# Altium footprint library analog-devices.PCBLIB: 79 footprints (part 2 of 6)
Each footprint in its own frame and in the unit in brackets; x right, y up, seen from the top. Pads: shape width x height; smd on the part's side, far side on the other; paste and mask are expansions set on the pad; w line width, h text height; cw(c..) or ccw(c..) is an arc to the next point about the centre after c.
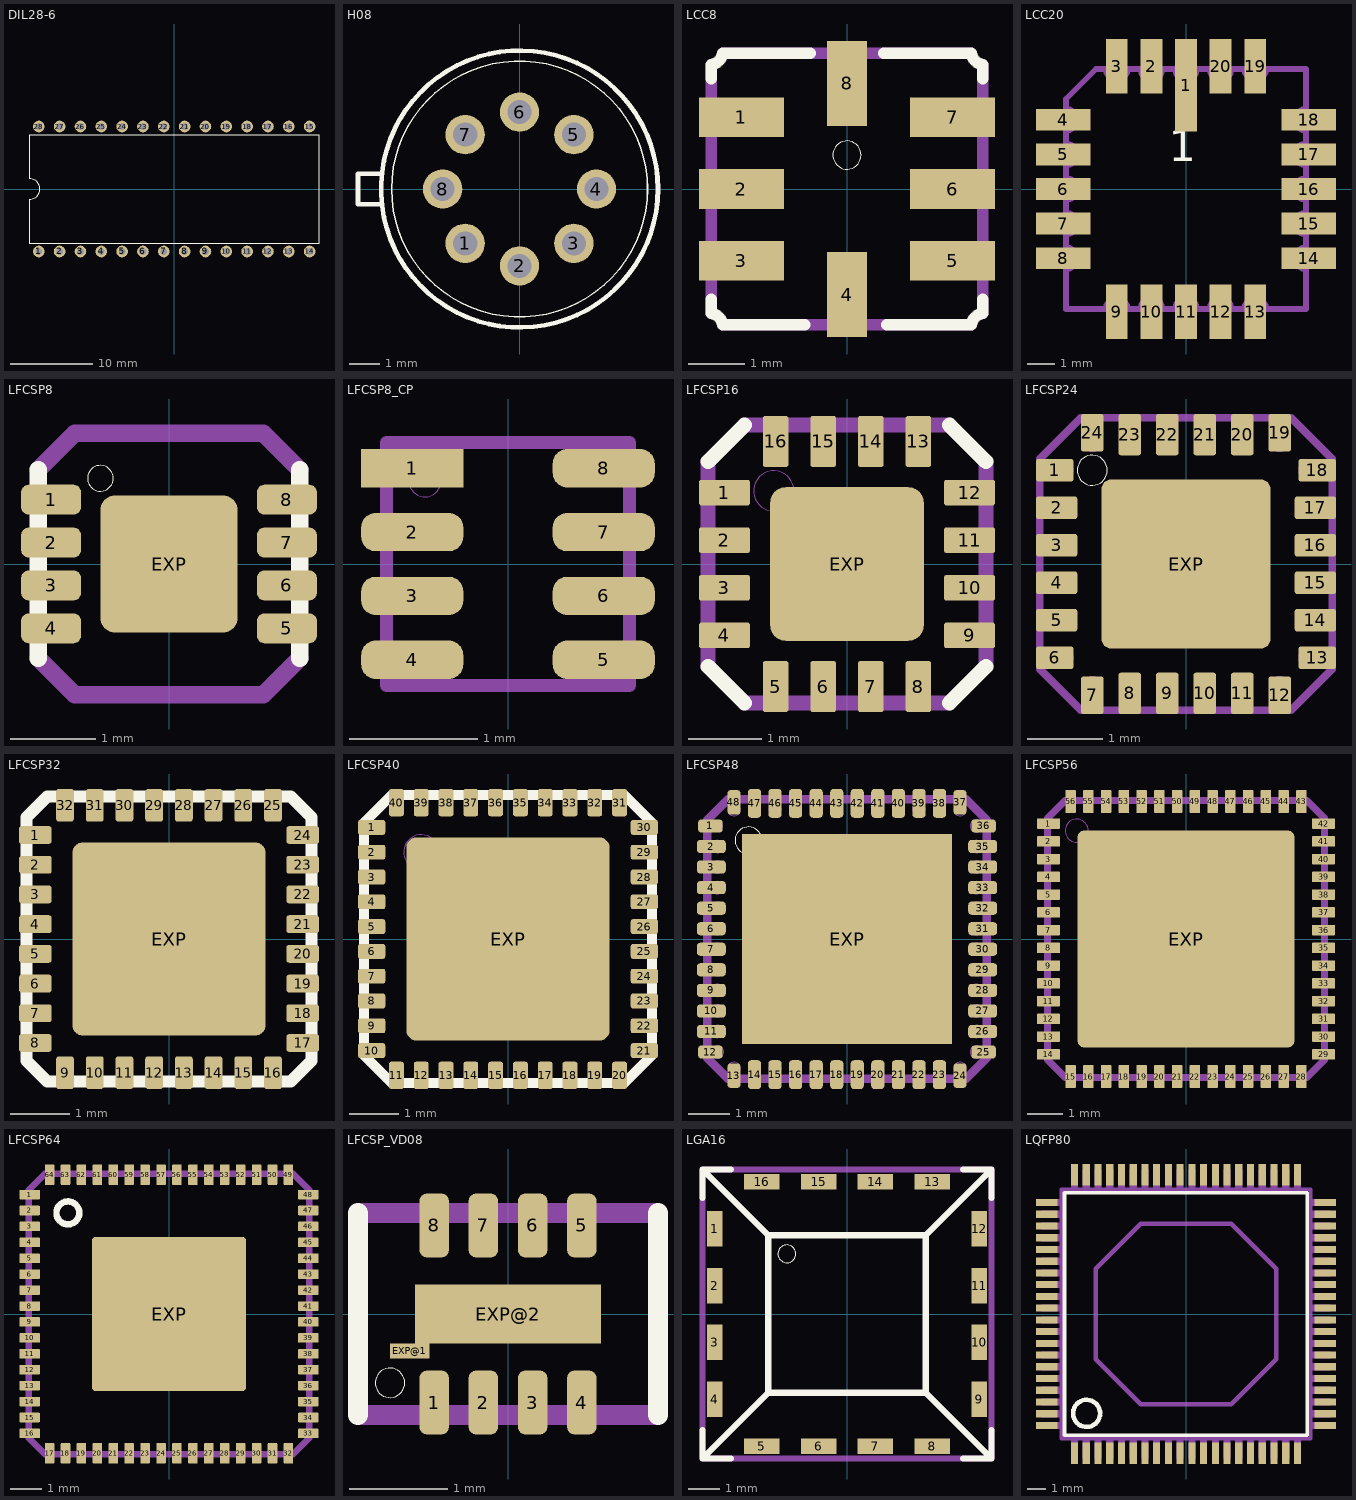
[diagram p1: the footprints below, top view; thin cyan lines are the x and y axes]

## DIL28-6 [mil]
pads (28):
  round 56 hole 32: 1(-650,-300) 2(-550,-300) 3(-450,-300) 4(-350,-300) 5(-250,-300) 6(-150,-300) 7(-50,-300) 8(50,-300) 9(150,-300) 10(250,-300) 11(350,-300) 12(450,-300) 13(550,-300) 14(650,-300) 15(650,300) 16(550,300) 17(450,300) 18(350,300) 19(250,300) 20(150,300) 21(50,300) 22(-50,300) 23(-150,300) 24(-250,300) 25(-350,300) 26(-450,300) 27(-550,300) 28(-650,300)
Top Overlay:
  lines w6: -695,-260 -695,-50 ccw(c-695,0) -695,50 -695,260 695,260 695,-260 -695,-260

## H08 [mil]
pads (8):
  round 51.18 hole 31.5: 1(-70.71,-70.71) 2(0,-100) 3(70.71,-70.71) 4(100,0) 5(70.71,70.71) 6(0,100) 7(-70.71,70.71) 8(-100,0)
Top Overlay:
  circle w6: c0,0 r180
  circle w2: c0,0 r166.35
  lines w6: -180,-20 -210,-20 -210,20 -180,20

## LCC8 [mil]
pads (8):
  rect 59.06x27.56 smd: 1(-73.5,50) 2(-73.5,0) 3(-73.5,-50) 5(73.5,-50) 6(73.5,0) 7(73.5,50)
  rect 27.56x59.06 smd: 4(0,-73.5) 8(0,73.5)
Top Overlay:
  circle w0: c0,23.62 r9.84
  lines w8: -94.49,-76.77 -94.49,-86.61 cw(c-95.47,-95.47) -86.61,-94.49 -29.53,-94.49 ; -94.49,76.77 -94.49,86.61 ccw(c-95.47,95.47) -86.61,94.49 -25.59,94.49 ; 25.59,94.49 86.61,94.49 ccw(c95.47,95.47) 94.49,86.61 94.49,76.77 ; 27.56,-94.49 86.61,-94.49 cw(c95.47,-95.47) 94.49,-86.61 94.49,-76.77
Mechanical 16:
  lines w8: -94.49,-86.61 -94.49,-59.06 ccw(c-94.49,-50.2) -94.49,-41.34 -94.49,-7.87 ccw(c-94.49,0) -94.49,7.87 -94.49,41.34 ccw(c-94.49,50.2) -94.49,59.06 -94.49,86.61 ; -86.61,-94.49 -7.87,-94.49 cw(c0,-94.49) 7.87,-94.49 86.61,-94.49 ; -86.61,94.49 -7.87,94.49 ccw(c0,94.49) 7.87,94.49 86.61,94.49 ; 94.49,-86.61 94.49,-59.06 cw(c94.49,-50.2) 94.49,-41.34 94.49,-7.87 cw(c94.49,0) 94.49,7.87 94.49,41.34 cw(c94.49,50.2) 94.49,59.06 94.49,86.61

## LCC20 [mil]
pads (20):
  rect 31.5x133.86 smd: 1(0,149.61)
  rect 31.5x78.74 smd: 2(-50,177.17) 3(-100,177.17) 9(-100,-177.17) 10(-50,-177.17) 11(0,-177.17) 12(50,-177.17) 13(100,-177.17) 19(100,177.17) 20(50,177.17)
  rect 78.74x31.5 smd: 4(-177.17,100) 5(-177.17,50) 6(-177.17,0) 7(-177.17,-50) 8(-177.17,-100) 14(177.17,-100) 15(177.17,-50) 16(177.17,0) 17(177.17,50) 18(177.17,100)
Top Overlay:
  text "1" at -25,25 h77.5
Mechanical 16:
  lines w8: -173.23,-173.62 -173.23,-173.23 ; -173.23,-115.75 -173.23,-173.23 ; -173.23,-84.25 -173.23,-65.75 ; -173.23,-34.25 -173.23,-15.75 ; -173.23,15.75 -173.23,34.25 ; -173.23,65.75 -173.23,84.25 ; -173.23,115.75 -173.23,129.92 -129.92,173.23 -115.75,173.23 ; -173.17,-115.75 ccw(c-173.17,-100) -173.17,-84.25 ; -173.17,-65.75 ccw(c-173.17,-50) -173.17,-34.25 ; -173.17,-15.75 ccw(c-173.17,0) -173.17,15.75 ; -173.17,34.25 ccw(c-173.17,50) -173.17,65.75 ; -173.17,84.25 ccw(c-173.17,100) -173.17,115.75 ; -115.75,-173.23 -173.23,-173.23 ; -115.75,-173.17 cw(c-100,-173.17) -84.25,-173.17 ; -115.75,173.17 ccw(c-100,173.17) -84.25,173.17 ; -84.25,-173.23 -65.75,-173.23 ; -84.25,173.23 -65.75,173.23 ; -65.75,-173.17 cw(c-50,-173.17) -34.25,-173.17 ; -65.75,173.17 ccw(c-50,173.17) -34.25,173.17 ; -34.25,-173.23 -15.75,-173.23 ; -34.25,173.23 -15.75,173.23 ; -15.75,-173.17 cw(c0,-173.17) 15.75,-173.17 ; -15.75,173.17 ccw(c0,173.17) 15.75,173.17 ; 15.75,-173.23 34.25,-173.23 ; 15.75,173.23 34.25,173.23 ; 34.25,-173.17 cw(c50,-173.17) 65.75,-173.17 ; 34.25,173.17 ccw(c50,173.17) 65.75,173.17 ; 65.75,-173.23 84.25,-173.23 ; 65.75,173.23 84.25,173.23 ; 84.25,-173.17 cw(c100,-173.17) 115.75,-173.17 ; 84.25,173.17 ccw(c100,173.17) 115.75,173.17 ; 115.75,-173.23 173.23,-173.23 173.23,-115.75 ; 115.75,173.23 173.23,173.23 173.23,115.75 ; 173.17,-115.75 cw(c173.17,-100) 173.17,-84.25 ; 173.17,-65.75 cw(c173.17,-50) 173.17,-34.25 ; 173.17,-15.75 cw(c173.17,0) 173.17,15.75 ; 173.17,34.25 cw(c173.17,50) 173.17,65.75 ; 173.17,84.25 cw(c173.17,100) 173.17,115.75 ; 173.23,-84.25 173.23,-65.75 ; 173.23,-34.25 173.23,-15.75 ; 173.23,15.75 173.23,34.25 ; 173.23,65.75 173.23,84.25

## LFCSP8 [mm]
pads (9):
  rrect50% 0.7x0.35 smd: 1(-1.375,0.75) 2(-1.375,0.25) 3(-1.375,-0.25) 4(-1.375,-0.75) 5(1.375,-0.75) 6(1.375,-0.25) 7(1.375,0.25) 8(1.375,0.75)
  rrect20% 1.6x1.6 smd: EXP(0,0)
Top Overlay:
  circle w0: c-0.8,1 r0.15
  lines w0.203: -1.523,-1.1 -1.523,1.1 ; 1.523,-1.1 1.523,1.1
Top Paste:
  rectangle: -0.725,-0.725 0.725,0.725
Top Solder:
  rectangle: -1.75,0.55 -1,0.95
  rectangle: -1.75,0.05 -1,0.45
  rectangle: -1.75,-0.45 -1,-0.05
  rectangle: -1.75,-0.95 -1,-0.55
  region: 1.75,-0.55 1,-0.55 1,-0.95 1.75,-0.95
  region: 1.75,-0.05 1,-0.05 1,-0.45 1.75,-0.45
  region: 1.75,0.45 1,0.45 1,0.05 1.75,0.05
  region: 1.75,0.95 1,0.95 1,0.55 1.75,0.55
  region: -0.533,0.8 -0.502,0.724 -0.425,0.692 -0.349,0.724 -0.317,0.8 -0.325,0.8 0.65,0.812 0.765,0.765 0.812,0.65 0.8,0.65 0.812,-0.65 0.765,-0.765 0.65,-0.812 0.65,-0.8 -0.65,-0.812 -0.765,-0.765 -0.812,-0.65 -0.8,-0.65 -0.812,0.65 -0.765,0.765 -0.65,0.812 -0.65,0.8
Mechanical 16:
  lines w0.203: -1.523,-1.1 -1.1,-1.523 1.1,-1.523 1.523,-1.1 ; -1.523,1.1 -1.1,1.523 1.1,1.523 1.523,1.1

## LFCSP8_CP [mil]
pads (8):
  rect 31.5x11.81 smd: 1(-29.53,29.53)
  rrect75% 31.5x11.81 smd: 2(-29.53,9.84) 3(-29.53,-9.84) 4(-29.53,-29.53) 5(29.53,-29.53) 6(29.53,-9.84) 7(29.53,9.84) 8(29.53,29.53)
Top Paste:
  rectangle: -44.29,24.61 -14.76,34.45
  rectangle: -43.31,4.92 -15.75,14.76
  rectangle: -43.31,-14.76 -15.75,-4.92
  rectangle: -43.31,-34.45 -15.75,-24.61
  region: 43.31,-24.61 15.75,-24.61 15.75,-34.45 43.31,-34.45
  region: 43.31,-4.92 15.75,-4.92 15.75,-14.76 43.31,-14.76
  region: 43.31,14.76 15.75,14.76 15.75,4.92 43.31,4.92
  region: 43.31,34.45 15.75,34.45 15.75,24.61 43.31,24.61
Top Solder:
  rectangle: -46.26,22.64 -12.8,36.42
  rectangle: -46.26,2.95 -12.8,16.73
  rectangle: -46.26,-16.73 -12.8,-2.95
  rectangle: -46.26,-36.42 -12.8,-22.64
  region: 46.26,-22.64 12.8,-22.64 12.8,-36.42 46.26,-36.42
  region: 46.26,-2.95 12.8,-2.95 12.8,-16.73 46.26,-16.73
  region: 46.26,16.73 12.8,16.73 12.8,2.95 46.26,2.95
  region: 46.26,36.42 12.8,36.42 12.8,22.64 46.26,22.64
Mechanical 16:
  circle w0: c-25.59,25.59 r4.92
  lines w4: -37.4,-37.4 37.4,-37.4 37.4,37.4 -37.4,37.4 -37.4,-37.4

## LFCSP16 [mm]
pads (17):
  rrect20% 0.7x0.35 smd: 1(-1.675,0.975) 2(-1.675,0.325) 3(-1.675,-0.325) 4(-1.675,-0.975) 9(1.675,-0.975) 10(1.675,-0.325) 11(1.675,0.325) 12(1.675,0.975)
  rrect20% 0.35x0.7 smd: 5(-0.975,-1.675) 6(-0.325,-1.675) 7(0.325,-1.675) 8(0.975,-1.675) 13(0.975,1.675) 14(0.325,1.675) 15(-0.325,1.675) 16(-0.975,1.675)
  rrect20% 2.1x2.1 smd: EXP(0,0)
Top Overlay:
  lines w0.203: -1.898,-1.4 -1.4,-1.898 ; -1.898,1.4 -1.4,1.898 ; 1.4,-1.898 1.898,-1.4 ; 1.4,1.898 1.898,1.4
Top Paste:
  rectangle: -0.975,-0.975 0.975,0.975
Top Solder:
  rectangle: -2.05,0.775 -1.3,1.175
  rectangle: -2.05,0.125 -1.3,0.525
  rectangle: -2.05,-0.525 -1.3,-0.125
  rectangle: -2.05,-1.175 -1.3,-0.775
  region: -0.775,-2.05 -0.775,-1.3 -1.175,-1.3 -1.175,-2.05
  region: -0.125,-2.05 -0.125,-1.3 -0.525,-1.3 -0.525,-2.05
  region: 0.525,-2.05 0.525,-1.3 0.125,-1.3 0.125,-2.05
  region: 1.175,-2.05 1.175,-1.3 0.775,-1.3 0.775,-2.05
  region: 2.05,-0.775 1.3,-0.775 1.3,-1.175 2.05,-1.175
  region: 2.05,-0.125 1.3,-0.125 1.3,-0.525 2.05,-0.525
  region: 2.05,0.525 1.3,0.525 1.3,0.125 2.05,0.125
  region: 2.05,1.175 1.3,1.175 1.3,0.775 2.05,0.775
  region: 0.775,2.05 0.775,1.3 1.175,1.3 1.175,2.05
  region: 0.125,2.05 0.125,1.3 0.525,1.3 0.525,2.05
  region: -0.525,2.05 -0.525,1.3 -0.125,1.3 -0.125,2.05
  region: -1.175,2.05 -1.175,1.3 -0.775,1.3 -0.775,2.05
  rectangle: -1.05,-1.05 1.05,1.05
Mechanical 16:
  circle w0: c-1,1 r0.275
  lines w0.203: -1.898,-1.4 -1.898,1.4 ; -1.4,-1.898 1.4,-1.898 ; -1.4,1.898 1.4,1.898 ; 1.898,-1.4 1.898,1.4

## LFCSP24 [mm]
pads (25):
  rrect20% 0.5x0.3 smd: 1(-1.75,1.25) 6(-1.75,-1.25) 13(1.75,-1.25) 18(1.75,1.25)
  rrect20% 0.55x0.3 smd: 2(-1.725,0.75) 3(-1.725,0.25) 4(-1.725,-0.25) 5(-1.725,-0.75) 14(1.725,-0.75) 15(1.725,-0.25) 16(1.725,0.25) 17(1.725,0.75)
  rrect20% 0.3x0.5 smd: 7(-1.25,-1.75) 12(1.25,-1.75) 19(1.25,1.75) 24(-1.25,1.75)
  rrect20% 0.3x0.55 smd: 8(-0.75,-1.725) 9(-0.25,-1.725) 10(0.25,-1.725) 11(0.75,-1.725) 20(0.75,1.725) 21(0.25,1.725) 22(-0.25,1.725) 23(-0.75,1.725)
  rrect10% 2.25x2.25 smd: EXP(0,0)
Top Overlay:
  circle w0: c-1.25,1.25 r0.2
Top Paste:
  rectangle: -1.975,1.125 -1.525,1.375
  rectangle: -1.975,0.625 -1.475,0.875
  rectangle: -1.975,0.125 -1.475,0.375
  rectangle: -1.975,-0.375 -1.475,-0.125
  rectangle: -1.975,-0.875 -1.475,-0.625
  rectangle: -1.975,-1.375 -1.525,-1.125
  region: -1.125,-1.975 -1.125,-1.525 -1.375,-1.525 -1.375,-1.975
  region: -0.625,-1.975 -0.625,-1.475 -0.875,-1.475 -0.875,-1.975
  region: -0.125,-1.975 -0.125,-1.475 -0.375,-1.475 -0.375,-1.975
  region: 0.375,-1.975 0.375,-1.475 0.125,-1.475 0.125,-1.975
  region: 0.875,-1.975 0.875,-1.475 0.625,-1.475 0.625,-1.975
  region: 1.375,-1.975 1.375,-1.525 1.125,-1.525 1.125,-1.975
  region: 1.975,-1.125 1.525,-1.125 1.525,-1.375 1.975,-1.375
  region: 1.975,-0.625 1.475,-0.625 1.475,-0.875 1.975,-0.875
  region: 1.975,-0.125 1.475,-0.125 1.475,-0.375 1.975,-0.375
  region: 1.975,0.375 1.475,0.375 1.475,0.125 1.975,0.125
  region: 1.975,0.875 1.475,0.875 1.475,0.625 1.975,0.625
  region: 1.975,1.375 1.525,1.375 1.525,1.125 1.975,1.125
  region: 1.125,1.975 1.125,1.525 1.375,1.525 1.375,1.975
  region: 0.625,1.975 0.625,1.475 0.875,1.475 0.875,1.975
  region: 0.125,1.975 0.125,1.475 0.375,1.475 0.375,1.975
  region: -0.375,1.975 -0.375,1.475 -0.125,1.475 -0.125,1.975
  region: -0.875,1.975 -0.875,1.475 -0.625,1.475 -0.625,1.975
  region: -1.375,1.975 -1.375,1.525 -1.125,1.525 -1.125,1.975
  rectangle: -1.05,-1.05 1.05,1.05
Top Solder:
  rectangle: -2,1.1 -1.5,1.4
  rectangle: -2,0.6 -1.45,0.9
  rectangle: -2,0.1 -1.45,0.4
  rectangle: -2,-0.4 -1.45,-0.1
  rectangle: -2,-0.9 -1.45,-0.6
  rectangle: -2,-1.4 -1.5,-1.1
  region: -1.1,-2 -1.1,-1.5 -1.4,-1.5 -1.4,-2
  region: -0.6,-2 -0.6,-1.45 -0.9,-1.45 -0.9,-2
  region: -0.1,-2 -0.1,-1.45 -0.4,-1.45 -0.4,-2
  region: 0.4,-2 0.4,-1.45 0.1,-1.45 0.1,-2
  region: 0.9,-2 0.9,-1.45 0.6,-1.45 0.6,-2
  region: 1.4,-2 1.4,-1.5 1.1,-1.5 1.1,-2
  region: 2,-1.1 1.5,-1.1 1.5,-1.4 2,-1.4
  region: 2,-0.6 1.45,-0.6 1.45,-0.9 2,-0.9
  region: 2,-0.1 1.45,-0.1 1.45,-0.4 2,-0.4
  region: 2,0.4 1.45,0.4 1.45,0.1 2,0.1
  region: 2,0.9 1.45,0.9 1.45,0.6 2,0.6
  region: 2,1.4 1.5,1.4 1.5,1.1 2,1.1
  region: 1.1,2 1.1,1.5 1.4,1.5 1.4,2
  region: 0.6,2 0.6,1.45 0.9,1.45 0.9,2
  region: 0.1,2 0.1,1.45 0.4,1.45 0.4,2
  region: -0.4,2 -0.4,1.45 -0.1,1.45 -0.1,2
  region: -0.9,2 -0.9,1.45 -0.6,1.45 -0.6,2
  region: -1.4,2 -1.4,1.5 -1.1,1.5 -1.1,2
  region: 0,0 0.254,0 0.254,0.254 0,0.254
Mechanical 16:
  circle w0: c-1.625,1.25 r0.125
  circle w0: c-1.625,0.75 r0.125
  circle w0: c-1.625,0.25 r0.125
  circle w0: c-1.625,-0.25 r0.125
  circle w0: c-1.625,-0.75 r0.125
  circle w0: c-1.625,-1.25 r0.125
  circle w0: c-1.25,-1.625 r0.125
  circle w0: c-0.75,-1.625 r0.125
  circle w0: c-0.25,-1.625 r0.125
  circle w0: c0.25,-1.625 r0.125
  circle w0: c0.75,-1.625 r0.125
  circle w0: c1.25,-1.625 r0.125
  circle w0: c1.625,-1.25 r0.125
  circle w0: c1.625,-0.75 r0.125
  circle w0: c1.625,-0.25 r0.125
  circle w0: c1.625,0.25 r0.125
  circle w0: c1.625,0.75 r0.125
  circle w0: c1.625,1.25 r0.125
  circle w0: c1.25,1.625 r0.125
  circle w0: c0.75,1.625 r0.125
  circle w0: c0.25,1.625 r0.125
  circle w0: c-0.25,1.625 r0.125
  circle w0: c-0.75,1.625 r0.125
  circle w0: c-1.25,1.625 r0.125
  rectangle: -2,1.125 -1.625,1.375
  rectangle: -2,0.625 -1.625,0.875
  rectangle: -2,0.125 -1.625,0.375
  rectangle: -2,-0.375 -1.625,-0.125
  rectangle: -2,-0.875 -1.625,-0.625
  rectangle: -2,-1.375 -1.625,-1.125
  region: -1.125,-2 -1.125,-1.625 -1.375,-1.625 -1.375,-2
  region: -0.625,-2 -0.625,-1.625 -0.875,-1.625 -0.875,-2
  region: -0.125,-2 -0.125,-1.625 -0.375,-1.625 -0.375,-2
  region: 0.375,-2 0.375,-1.625 0.125,-1.625 0.125,-2
  region: 0.875,-2 0.875,-1.625 0.625,-1.625 0.625,-2
  region: 1.375,-2 1.375,-1.625 1.125,-1.625 1.125,-2
  region: 2,-1.125 1.625,-1.125 1.625,-1.375 2,-1.375
  region: 2,-0.625 1.625,-0.625 1.625,-0.875 2,-0.875
  region: 2,-0.125 1.625,-0.125 1.625,-0.375 2,-0.375
  region: 2,0.375 1.625,0.375 1.625,0.125 2,0.125
  region: 2,0.875 1.625,0.875 1.625,0.625 2,0.625
  region: 2,1.375 1.625,1.375 1.625,1.125 2,1.125
  region: 1.125,2 1.125,1.625 1.375,1.625 1.375,2
  region: 0.625,2 0.625,1.625 0.875,1.625 0.875,2
  region: 0.125,2 0.125,1.625 0.375,1.625 0.375,2
  region: -0.375,2 -0.375,1.625 -0.125,1.625 -0.125,2
  region: -0.875,2 -0.875,1.625 -0.625,1.625 -0.625,2
  region: -1.375,2 -1.375,1.625 -1.125,1.625 -1.125,2
  lines w0.102: -1.95,-1.4 -1.4,-1.95 1.4,-1.95 1.95,-1.4 1.95,1.4 1.4,1.95 -1.4,1.95 -1.95,1.4 -1.95,-1.4

## LFCSP32 [mm]
pads (33):
  rrect30% 0.55x0.3 smd: 1(-2.25,1.75) 2(-2.25,1.25) 3(-2.25,0.75) 4(-2.25,0.25) 5(-2.25,-0.25) 6(-2.25,-0.75) 7(-2.25,-1.25) 8(-2.25,-1.75) 17(2.25,-1.75) 18(2.25,-1.25) 19(2.25,-0.75) 20(2.25,-0.25) 21(2.25,0.25) 22(2.25,0.75) 23(2.25,1.25) 24(2.25,1.75)
  rrect30% 0.3x0.55 smd: 9(-1.75,-2.25) 10(-1.25,-2.25) 11(-0.75,-2.25) 12(-0.25,-2.25) 13(0.25,-2.25) 14(0.75,-2.25) 15(1.25,-2.25) 16(1.75,-2.25) 25(1.75,2.25) 26(1.25,2.25) 27(0.75,2.25) 28(0.25,2.25) 29(-0.25,2.25) 30(-0.75,2.25) 31(-1.25,2.25) 32(-1.75,2.25)
  rrect10% 3.25x3.25 smd: EXP(0,0)
Top Overlay:
  lines w0.203: -2.4,-2.05 -2.05,-2.4 2.05,-2.4 2.4,-2.05 2.4,2.05 2.05,2.4 -2.05,2.4 -2.4,2.05 -2.4,-2.05
Top Paste:
  drawing of 161 lines, arcs and shapes, not listed
Top Solder:
  drawing of 161 lines, arcs and shapes, not listed
Mechanical 16:
  circle w0: c-2.21,1.75 r0.115
  circle w0: c-2.21,1.25 r0.115
  circle w0: c-2.21,0.75 r0.115
  circle w0: c-2.21,0.25 r0.115
  circle w0: c-2.21,-0.25 r0.115
  circle w0: c-2.21,-0.75 r0.115
  circle w0: c-2.21,-1.25 r0.115
  circle w0: c-2.21,-1.75 r0.115
  circle w0: c-1.25,1.25 r0.354
  circle w0: c-1.75,-2.21 r0.115
  circle w0: c-1.25,-2.21 r0.115
  circle w0: c-0.75,-2.21 r0.115
  circle w0: c-0.25,-2.21 r0.115
  circle w0: c0.25,-2.21 r0.115
  circle w0: c0.75,-2.21 r0.115
  circle w0: c1.25,-2.21 r0.115
  circle w0: c1.75,-2.21 r0.115
  circle w0: c2.21,-1.75 r0.115
  circle w0: c2.21,-1.25 r0.115
  circle w0: c2.21,-0.75 r0.115
  circle w0: c2.21,-0.25 r0.115
  circle w0: c2.21,0.25 r0.115
  circle w0: c2.21,0.75 r0.115
  circle w0: c2.21,1.25 r0.115
  circle w0: c2.21,1.75 r0.115
  circle w0: c1.75,2.21 r0.115
  circle w0: c1.25,2.21 r0.115
  circle w0: c0.75,2.21 r0.115
  circle w0: c0.25,2.21 r0.115
  circle w0: c-0.25,2.21 r0.115
  circle w0: c-0.75,2.21 r0.115
  circle w0: c-1.25,2.21 r0.115
  circle w0: c-1.75,2.21 r0.115
  rectangle: -2.5,1.635 -2.21,1.865
  rectangle: -2.5,1.135 -2.21,1.365
  rectangle: -2.5,0.635 -2.21,0.865
  rectangle: -2.5,0.135 -2.21,0.365
  rectangle: -2.5,-0.365 -2.21,-0.135
  rectangle: -2.5,-0.865 -2.21,-0.635
  rectangle: -2.5,-1.365 -2.21,-1.135
  rectangle: -2.5,-1.865 -2.21,-1.635
  region: -1.635,-2.5 -1.635,-2.21 -1.865,-2.21 -1.865,-2.5
  region: -1.135,-2.5 -1.135,-2.21 -1.365,-2.21 -1.365,-2.5
  region: -0.635,-2.5 -0.635,-2.21 -0.865,-2.21 -0.865,-2.5
  region: -0.135,-2.5 -0.135,-2.21 -0.365,-2.21 -0.365,-2.5
  region: 0.365,-2.5 0.365,-2.21 0.135,-2.21 0.135,-2.5
  region: 0.865,-2.5 0.865,-2.21 0.635,-2.21 0.635,-2.5
  region: 1.365,-2.5 1.365,-2.21 1.135,-2.21 1.135,-2.5
  region: 1.865,-2.5 1.865,-2.21 1.635,-2.21 1.635,-2.5
  region: 2.5,-1.635 2.21,-1.635 2.21,-1.865 2.5,-1.865
  region: 2.5,-1.135 2.21,-1.135 2.21,-1.365 2.5,-1.365
  region: 2.5,-0.635 2.21,-0.635 2.21,-0.865 2.5,-0.865
  region: 2.5,-0.135 2.21,-0.135 2.21,-0.365 2.5,-0.365
  region: 2.5,0.365 2.21,0.365 2.21,0.135 2.5,0.135
  region: 2.5,0.865 2.21,0.865 2.21,0.635 2.5,0.635
  region: 2.5,1.365 2.21,1.365 2.21,1.135 2.5,1.135
  region: 2.5,1.865 2.21,1.865 2.21,1.635 2.5,1.635
  region: 1.635,2.5 1.635,2.21 1.865,2.21 1.865,2.5
  region: 1.135,2.5 1.135,2.21 1.365,2.21 1.365,2.5
  region: 0.635,2.5 0.635,2.21 0.865,2.21 0.865,2.5
  region: 0.135,2.5 0.135,2.21 0.365,2.21 0.365,2.5
  region: -0.365,2.5 -0.365,2.21 -0.135,2.21 -0.135,2.5
  region: -0.865,2.5 -0.865,2.21 -0.635,2.21 -0.635,2.5
  region: -1.365,2.5 -1.365,2.21 -1.135,2.21 -1.135,2.5
  region: -1.865,2.5 -1.865,2.21 -1.635,2.21 -1.635,2.5

## LFCSP40 [mm]
pads (41):
  rrect30% 0.55x0.3 smd: 1(-2.75,2.25) 2(-2.75,1.75) 3(-2.75,1.25) 4(-2.75,0.75) 5(-2.75,0.25) 6(-2.75,-0.25) 7(-2.75,-0.75) 8(-2.75,-1.25) 9(-2.75,-1.75) 10(-2.75,-2.25) 21(2.75,-2.25) 22(2.75,-1.75) 23(2.75,-1.25) 24(2.75,-0.75) 25(2.75,-0.25) 26(2.75,0.25) 27(2.75,0.75) 28(2.75,1.25) 29(2.75,1.75) 30(2.75,2.25)
  rrect30% 0.3x0.55 smd: 11(-2.25,-2.75) 12(-1.75,-2.75) 13(-1.25,-2.75) 14(-0.75,-2.75) 15(-0.25,-2.75) 16(0.25,-2.75) 17(0.75,-2.75) 18(1.25,-2.75) 19(1.75,-2.75) 20(2.25,-2.75) 31(2.25,2.75) 32(1.75,2.75) 33(1.25,2.75) 34(0.75,2.75) 35(0.25,2.75) 36(-0.25,2.75) 37(-0.75,2.75) 38(-1.25,2.75) 39(-1.75,2.75) 40(-2.25,2.75)
  rrect10% 4.1x4.1 smd: EXP(0,0)
Top Overlay:
  lines w0.203: -2.9,-2.35 -2.35,-2.9 2.35,-2.9 2.9,-2.35 2.9,2.35 2.35,2.9 -2.35,2.9 -2.9,2.35 -2.9,-2.35
Top Paste:
  drawing of 205 lines, arcs and shapes, not listed
Top Solder:
  drawing of 205 lines, arcs and shapes, not listed
Mechanical 16:
  circle w0: c-2.71,2.25 r0.115
  circle w0: c-2.71,1.75 r0.115
  circle w0: c-2.71,1.25 r0.115
  circle w0: c-2.71,0.75 r0.115
  circle w0: c-2.71,0.25 r0.115
  circle w0: c-2.71,-0.25 r0.115
  circle w0: c-2.71,-0.75 r0.115
  circle w0: c-2.71,-1.25 r0.115
  circle w0: c-2.71,-1.75 r0.115
  circle w0: c-2.71,-2.25 r0.115
  circle w0: c-2.25,-2.71 r0.115
  circle w0: c-1.75,-2.71 r0.115
  circle w0: c-1.25,-2.71 r0.115
  circle w0: c-0.75,-2.71 r0.115
  circle w0: c-0.25,-2.71 r0.115
  circle w0: c0.25,-2.71 r0.115
  circle w0: c0.75,-2.71 r0.115
  circle w0: c1.25,-2.71 r0.115
  circle w0: c1.75,-2.71 r0.115
  circle w0: c2.25,-2.71 r0.115
  circle w0: c2.71,-2.25 r0.115
  circle w0: c2.71,-1.75 r0.115
  circle w0: c2.71,-1.25 r0.115
  circle w0: c2.71,-0.75 r0.115
  circle w0: c2.71,-0.25 r0.115
  circle w0: c2.71,0.25 r0.115
  circle w0: c2.71,0.75 r0.115
  circle w0: c2.71,1.25 r0.115
  circle w0: c2.71,1.75 r0.115
  circle w0: c2.71,2.25 r0.115
  circle w0: c2.25,2.71 r0.115
  circle w0: c1.75,2.71 r0.115
  circle w0: c1.25,2.71 r0.115
  circle w0: c0.75,2.71 r0.115
  circle w0: c0.25,2.71 r0.115
  circle w0: c-0.25,2.71 r0.115
  circle w0: c-0.75,2.71 r0.115
  circle w0: c-1.25,2.71 r0.115
  circle w0: c-1.75,2.71 r0.115
  circle w0: c-2.25,2.71 r0.115
  circle w0: c-1.75,1.75 r0.354
  rectangle: -3,2.135 -2.71,2.365
  rectangle: -3,1.635 -2.71,1.865
  rectangle: -3,1.135 -2.71,1.365
  rectangle: -3,0.635 -2.71,0.865
  rectangle: -3,0.135 -2.71,0.365
  rectangle: -3,-0.365 -2.71,-0.135
  rectangle: -3,-0.865 -2.71,-0.635
  rectangle: -3,-1.365 -2.71,-1.135
  rectangle: -3,-1.865 -2.71,-1.635
  rectangle: -3,-2.365 -2.71,-2.135
  region: -2.135,-3 -2.135,-2.71 -2.365,-2.71 -2.365,-3
  region: -1.635,-3 -1.635,-2.71 -1.865,-2.71 -1.865,-3
  region: -1.135,-3 -1.135,-2.71 -1.365,-2.71 -1.365,-3
  region: -0.635,-3 -0.635,-2.71 -0.865,-2.71 -0.865,-3
  region: -0.135,-3 -0.135,-2.71 -0.365,-2.71 -0.365,-3
  region: 0.365,-3 0.365,-2.71 0.135,-2.71 0.135,-3
  region: 0.865,-3 0.865,-2.71 0.635,-2.71 0.635,-3
  region: 1.365,-3 1.365,-2.71 1.135,-2.71 1.135,-3
  region: 1.865,-3 1.865,-2.71 1.635,-2.71 1.635,-3
  region: 2.365,-3 2.365,-2.71 2.135,-2.71 2.135,-3
  region: 3,-2.135 2.71,-2.135 2.71,-2.365 3,-2.365
  region: 3,-1.635 2.71,-1.635 2.71,-1.865 3,-1.865
  region: 3,-1.135 2.71,-1.135 2.71,-1.365 3,-1.365
  region: 3,-0.635 2.71,-0.635 2.71,-0.865 3,-0.865
  region: 3,-0.135 2.71,-0.135 2.71,-0.365 3,-0.365
  region: 3,0.365 2.71,0.365 2.71,0.135 3,0.135
  region: 3,0.865 2.71,0.865 2.71,0.635 3,0.635
  region: 3,1.365 2.71,1.365 2.71,1.135 3,1.135
  region: 3,1.865 2.71,1.865 2.71,1.635 3,1.635
  region: 3,2.365 2.71,2.365 2.71,2.135 3,2.135
  region: 2.135,3 2.135,2.71 2.365,2.71 2.365,3
  region: 1.635,3 1.635,2.71 1.865,2.71 1.865,3
  region: 1.135,3 1.135,2.71 1.365,2.71 1.365,3
  region: 0.635,3 0.635,2.71 0.865,2.71 0.865,3
  region: 0.135,3 0.135,2.71 0.365,2.71 0.365,3
  region: -0.365,3 -0.365,2.71 -0.135,2.71 -0.135,3
  region: -0.865,3 -0.865,2.71 -0.635,2.71 -0.635,3
  region: -1.365,3 -1.365,2.71 -1.135,2.71 -1.135,3
  region: -1.865,3 -1.865,2.71 -1.635,2.71 -1.635,3
  region: -2.365,3 -2.365,2.71 -2.135,2.71 -2.135,3

## LFCSP48 [mm]
pads (49):
  rrect50% 0.6x0.32 smd: 1(-3.325,2.75) 12(-3.325,-2.75) 25(3.325,-2.75) 36(3.325,2.75)
  rrect50% 0.7x0.32 smd: 2(-3.3,2.25) 3(-3.3,1.75) 4(-3.3,1.25) 5(-3.3,0.75) 6(-3.3,0.25) 7(-3.3,-0.25) 8(-3.3,-0.75) 9(-3.3,-1.25) 10(-3.3,-1.75) 11(-3.3,-2.25) 26(3.3,-2.25) 27(3.3,-1.75) 28(3.3,-1.25) 29(3.3,-0.75) 30(3.3,-0.25) 31(3.3,0.25) 32(3.3,0.75) 33(3.3,1.25) 34(3.3,1.75) 35(3.3,2.25)
  rrect50% 0.32x0.6 smd: 13(-2.75,-3.325) 24(2.75,-3.325) 37(2.75,3.325) 48(-2.75,3.325)
  rrect50% 0.32x0.7 smd: 14(-2.25,-3.3) 15(-1.75,-3.3) 16(-1.25,-3.3) 17(-0.75,-3.3) 18(-0.25,-3.3) 19(0.25,-3.3) 20(0.75,-3.3) 21(1.25,-3.3) 22(1.75,-3.3) 23(2.25,-3.3) 38(2.25,3.3) 39(1.75,3.3) 40(1.25,3.3) 41(0.75,3.3) 42(0.25,3.3) 43(-0.25,3.3) 44(-0.75,3.3) 45(-1.25,3.3) 46(-1.75,3.3) 47(-2.25,3.3)
  rect 5.1x5.1 smd: EXP(0,0)
Top Overlay:
  circle w0: c-2.4,2.4 r0.326
Top Paste:
  rectangle: -2.5,-2.5 2.5,2.5
  lines w0.3: -3.5,-2.25 -3.1,-2.25 ; -3.5,-1.75 -3.1,-1.75 ; -3.5,-1.25 -3.1,-1.25 ; -3.5,-0.75 -3.1,-0.75 ; -3.5,-0.25 -3.1,-0.25 ; -3.5,0.25 -3.1,0.25 ; -3.5,0.75 -3.1,0.75 ; -3.5,1.25 -3.1,1.25 ; -3.5,1.75 -3.1,1.75 ; -3.5,2.25 -3.1,2.25 ; -3.475,-2.75 -3.175,-2.75 ; -3.475,2.75 -3.175,2.75 ; -2.75,-3.475 -2.75,-3.175 ; -2.75,3.175 -2.75,3.475 ; -2.25,-3.5 -2.25,-3.1 ; -2.25,3.1 -2.25,3.5 ; -1.75,-3.5 -1.75,-3.1 ; -1.75,3.1 -1.75,3.5 ; -1.25,-3.5 -1.25,-3.1 ; -1.25,3.1 -1.25,3.5 ; -0.75,-3.5 -0.75,-3.1 ; -0.75,3.1 -0.75,3.5 ; -0.25,-3.5 -0.25,-3.1 ; -0.25,3.1 -0.25,3.5 ; 0.25,-3.5 0.25,-3.1 ; 0.25,3.1 0.25,3.5 ; 0.75,-3.5 0.75,-3.1 ; 0.75,3.1 0.75,3.5 ; 1.25,-3.5 1.25,-3.1 ; 1.25,3.1 1.25,3.5 ; 1.75,-3.5 1.75,-3.1 ; 1.75,3.1 1.75,3.5 ; 2.25,-3.5 2.25,-3.1 ; 2.25,3.1 2.25,3.5 ; 2.75,-3.475 2.75,-3.175 ; 2.75,3.175 2.75,3.475 ; 3.1,-2.25 3.5,-2.25 ; 3.1,-1.75 3.5,-1.75 ; 3.1,-1.25 3.5,-1.25 ; 3.1,-0.75 3.5,-0.75 ; 3.1,-0.25 3.5,-0.25 ; 3.1,0.25 3.5,0.25 ; 3.1,0.75 3.5,0.75 ; 3.1,1.25 3.5,1.25 ; 3.1,1.75 3.5,1.75 ; 3.1,2.25 3.5,2.25 ; 3.175,-2.75 3.475,-2.75 ; 3.175,2.75 3.475,2.75
Top Solder:
  rectangle: -2.6,-2.6 2.6,2.6
  lines w0.4: -3.5,-2.25 -3.1,-2.25 ; -3.5,-1.75 -3.1,-1.75 ; -3.5,-1.25 -3.1,-1.25 ; -3.5,-0.75 -3.1,-0.75 ; -3.5,-0.25 -3.1,-0.25 ; -3.5,0.25 -3.1,0.25 ; -3.5,0.75 -3.1,0.75 ; -3.5,1.25 -3.1,1.25 ; -3.5,1.75 -3.1,1.75 ; -3.5,2.25 -3.1,2.25 ; -3.475,-2.75 -3.175,-2.75 ; -3.475,2.75 -3.175,2.75 ; -2.75,-3.475 -2.75,-3.175 ; -2.75,3.175 -2.75,3.475 ; -2.25,-3.5 -2.25,-3.1 ; -2.25,3.1 -2.25,3.5 ; -1.75,-3.5 -1.75,-3.1 ; -1.75,3.1 -1.75,3.5 ; -1.25,-3.5 -1.25,-3.1 ; -1.25,3.1 -1.25,3.5 ; -0.75,-3.5 -0.75,-3.1 ; -0.75,3.1 -0.75,3.5 ; -0.25,-3.5 -0.25,-3.1 ; -0.25,3.1 -0.25,3.5 ; 0.25,-3.5 0.25,-3.1 ; 0.25,3.1 0.25,3.5 ; 0.75,-3.5 0.75,-3.1 ; 0.75,3.1 0.75,3.5 ; 1.25,-3.5 1.25,-3.1 ; 1.25,3.1 1.25,3.5 ; 1.75,-3.5 1.75,-3.1 ; 1.75,3.1 1.75,3.5 ; 2.25,-3.5 2.25,-3.1 ; 2.25,3.1 2.25,3.5 ; 2.75,-3.475 2.75,-3.175 ; 2.75,3.175 2.75,3.475 ; 3.1,-2.25 3.5,-2.25 ; 3.1,-1.75 3.5,-1.75 ; 3.1,-1.25 3.5,-1.25 ; 3.1,-0.75 3.5,-0.75 ; 3.1,-0.25 3.5,-0.25 ; 3.1,0.25 3.5,0.25 ; 3.1,0.75 3.5,0.75 ; 3.1,1.25 3.5,1.25 ; 3.1,1.75 3.5,1.75 ; 3.1,2.25 3.5,2.25 ; 3.175,-2.75 3.475,-2.75 ; 3.175,2.75 3.475,2.75
Mechanical 16:
  circle w0: c-3.15,2.75 r0.125
  circle w0: c-3.15,2.25 r0.15
  circle w0: c-3.15,1.75 r0.15
  circle w0: c-3.15,1.25 r0.15
  circle w0: c-3.15,0.75 r0.15
  circle w0: c-3.15,0.25 r0.15
  circle w0: c-3.15,-0.25 r0.15
  circle w0: c-3.15,-0.75 r0.15
  circle w0: c-3.15,-1.25 r0.15
  circle w0: c-3.15,-1.75 r0.15
  circle w0: c-3.15,-2.25 r0.15
  circle w0: c-3.15,-2.75 r0.15
  circle w0: c-2.75,-3.15 r0.15
  circle w0: c-2.25,-3.15 r0.15
  circle w0: c-1.75,-3.15 r0.15
  circle w0: c-1.25,-3.15 r0.15
  circle w0: c-0.75,-3.15 r0.15
  circle w0: c-0.25,-3.15 r0.15
  circle w0: c0.25,-3.15 r0.15
  circle w0: c0.75,-3.15 r0.15
  circle w0: c1.25,-3.15 r0.15
  circle w0: c1.75,-3.15 r0.15
  circle w0: c2.25,-3.15 r0.15
  circle w0: c2.75,-3.15 r0.15
  circle w0: c3.15,-2.75 r0.15
  circle w0: c3.15,-2.25 r0.15
  circle w0: c3.15,-1.75 r0.15
  circle w0: c3.15,-1.25 r0.15
  circle w0: c3.15,-0.75 r0.15
  circle w0: c3.15,-0.25 r0.15
  circle w0: c3.15,0.25 r0.15
  circle w0: c3.15,0.75 r0.15
  circle w0: c3.15,1.25 r0.15
  circle w0: c3.15,1.75 r0.15
  circle w0: c3.15,2.25 r0.15
  circle w0: c3.15,2.75 r0.15
  circle w0: c2.75,3.15 r0.15
  circle w0: c2.25,3.15 r0.15
  circle w0: c1.75,3.15 r0.15
  circle w0: c1.25,3.15 r0.15
  circle w0: c0.75,3.15 r0.15
  circle w0: c0.25,3.15 r0.15
  circle w0: c-0.25,3.15 r0.15
  circle w0: c-0.75,3.15 r0.15
  circle w0: c-1.25,3.15 r0.15
  circle w0: c-1.75,3.15 r0.15
  circle w0: c-2.25,3.15 r0.15
  circle w0: c-2.75,3.15 r0.15
  rectangle: -3.475,2.6 -3.15,2.9
  rectangle: -3.475,2.1 -3.15,2.4
  rectangle: -3.475,1.6 -3.15,1.9
  rectangle: -3.475,1.1 -3.15,1.4
  rectangle: -3.475,0.6 -3.15,0.9
  rectangle: -3.475,0.1 -3.15,0.4
  rectangle: -3.475,-0.4 -3.15,-0.1
  rectangle: -3.475,-0.9 -3.15,-0.6
  rectangle: -3.475,-1.4 -3.15,-1.1
  rectangle: -3.475,-1.9 -3.15,-1.6
  rectangle: -3.475,-2.4 -3.15,-2.1
  rectangle: -3.475,-2.9 -3.15,-2.6
  region: -2.6,-3.475 -2.6,-3.15 -2.9,-3.15 -2.9,-3.475
  region: -2.1,-3.475 -2.1,-3.15 -2.4,-3.15 -2.4,-3.475
  region: -1.6,-3.475 -1.6,-3.15 -1.9,-3.15 -1.9,-3.475
  region: -1.1,-3.475 -1.1,-3.15 -1.4,-3.15 -1.4,-3.475
  region: -0.6,-3.475 -0.6,-3.15 -0.9,-3.15 -0.9,-3.475
  region: -0.1,-3.475 -0.1,-3.15 -0.4,-3.15 -0.4,-3.475
  region: 0.4,-3.475 0.4,-3.15 0.1,-3.15 0.1,-3.475
  region: 0.9,-3.475 0.9,-3.15 0.6,-3.15 0.6,-3.475
  region: 1.4,-3.475 1.4,-3.15 1.1,-3.15 1.1,-3.475
  region: 1.9,-3.475 1.9,-3.15 1.6,-3.15 1.6,-3.475
  region: 2.4,-3.475 2.4,-3.15 2.1,-3.15 2.1,-3.475
  region: 2.9,-3.475 2.9,-3.15 2.6,-3.15 2.6,-3.475
  region: 3.475,-2.6 3.15,-2.6 3.15,-2.9 3.475,-2.9
  region: 3.475,-2.1 3.15,-2.1 3.15,-2.4 3.475,-2.4
  region: 3.475,-1.6 3.15,-1.6 3.15,-1.9 3.475,-1.9
  region: 3.475,-1.1 3.15,-1.1 3.15,-1.4 3.475,-1.4
  region: 3.475,-0.6 3.15,-0.6 3.15,-0.9 3.475,-0.9
  region: 3.475,-0.1 3.15,-0.1 3.15,-0.4 3.475,-0.4
  region: 3.475,0.4 3.15,0.4 3.15,0.1 3.475,0.1
  region: 3.475,0.9 3.15,0.9 3.15,0.6 3.475,0.6
  region: 3.475,1.4 3.15,1.4 3.15,1.1 3.475,1.1
  region: 3.475,1.9 3.15,1.9 3.15,1.6 3.475,1.6
  region: 3.475,2.4 3.15,2.4 3.15,2.1 3.475,2.1
  region: 3.475,2.9 3.15,2.9 3.15,2.6 3.475,2.6
  region: 2.6,3.475 2.6,3.15 2.9,3.15 2.9,3.475
  region: 2.1,3.475 2.1,3.15 2.4,3.15 2.4,3.475
  region: 1.6,3.475 1.6,3.15 1.9,3.15 1.9,3.475
  region: 1.1,3.475 1.1,3.15 1.4,3.15 1.4,3.475
  region: 0.6,3.475 0.6,3.15 0.9,3.15 0.9,3.475
  region: 0.1,3.475 0.1,3.15 0.4,3.15 0.4,3.475
  region: -0.4,3.475 -0.4,3.15 -0.1,3.15 -0.1,3.475
  region: -0.9,3.475 -0.9,3.15 -0.6,3.15 -0.6,3.475
  region: -1.4,3.475 -1.4,3.15 -1.1,3.15 -1.1,3.475
  region: -1.9,3.475 -1.9,3.15 -1.6,3.15 -1.6,3.475
  region: -2.4,3.475 -2.4,3.15 -2.1,3.15 -2.1,3.475
  region: -2.9,3.475 -2.9,3.15 -2.6,3.15 -2.6,3.475
  lines w0.203: -3.4,-2.9 -2.9,-3.4 2.9,-3.4 3.4,-2.9 3.4,2.9 2.9,3.4 -2.9,3.4 -3.4,2.9 -3.4,-2.9

## LFCSP56 [mm]
pads (57):
  rrect20% 0.65x0.3 smd: 1(-3.875,3.25) 2(-3.875,2.75) 3(-3.875,2.25) 4(-3.875,1.75) 5(-3.875,1.25) 6(-3.875,0.75) 7(-3.875,0.25) 8(-3.875,-0.25) 9(-3.875,-0.75) 10(-3.875,-1.25) 11(-3.875,-1.75) 12(-3.875,-2.25) 13(-3.875,-2.75) 14(-3.875,-3.25) 29(3.875,-3.25) 30(3.875,-2.75) 31(3.875,-2.25) 32(3.875,-1.75) 33(3.875,-1.25) 34(3.875,-0.75) 35(3.875,-0.25) 36(3.875,0.25) 37(3.875,0.75) 38(3.875,1.25) 39(3.875,1.75) 40(3.875,2.25) 41(3.875,2.75) 42(3.875,3.25)
  rrect20% 0.3x0.65 smd: 15(-3.25,-3.875) 16(-2.75,-3.875) 17(-2.25,-3.875) 18(-1.75,-3.875) 19(-1.25,-3.875) 20(-0.75,-3.875) 21(-0.25,-3.875) 22(0.25,-3.875) 23(0.75,-3.875) 24(1.25,-3.875) 25(1.75,-3.875) 26(2.25,-3.875) 27(2.75,-3.875) 28(3.25,-3.875) 43(3.25,3.875) 44(2.75,3.875) 45(2.25,3.875) 46(1.75,3.875) 47(1.25,3.875) 48(0.75,3.875) 49(0.25,3.875) 50(-0.25,3.875) 51(-0.75,3.875) 52(-1.25,3.875) 53(-1.75,3.875) 54(-2.25,3.875) 55(-2.75,3.875) 56(-3.25,3.875)
  rrect5% 6.1x6.1 smd: EXP(0,0)
Top Paste:
  rectangle: -4.175,3.125 -3.575,3.375
  rectangle: -4.175,2.625 -3.575,2.875
  rectangle: -4.175,2.125 -3.575,2.375
  rectangle: -4.175,1.625 -3.575,1.875
  rectangle: -4.175,1.125 -3.575,1.375
  rectangle: -4.175,0.625 -3.575,0.875
  rectangle: -4.175,0.125 -3.575,0.375
  rectangle: -4.175,-0.375 -3.575,-0.125
  rectangle: -4.175,-0.875 -3.575,-0.625
  rectangle: -4.175,-1.375 -3.575,-1.125
  rectangle: -4.175,-1.875 -3.575,-1.625
  rectangle: -4.175,-2.375 -3.575,-2.125
  rectangle: -4.175,-2.875 -3.575,-2.625
  rectangle: -4.175,-3.375 -3.575,-3.125
  region: -3.125,-4.175 -3.125,-3.575 -3.375,-3.575 -3.375,-4.175
  region: -2.625,-4.175 -2.625,-3.575 -2.875,-3.575 -2.875,-4.175
  region: -2.125,-4.175 -2.125,-3.575 -2.375,-3.575 -2.375,-4.175
  region: -1.625,-4.175 -1.625,-3.575 -1.875,-3.575 -1.875,-4.175
  region: -1.125,-4.175 -1.125,-3.575 -1.375,-3.575 -1.375,-4.175
  region: -0.625,-4.175 -0.625,-3.575 -0.875,-3.575 -0.875,-4.175
  region: -0.125,-4.175 -0.125,-3.575 -0.375,-3.575 -0.375,-4.175
  region: 0.375,-4.175 0.375,-3.575 0.125,-3.575 0.125,-4.175
  region: 0.875,-4.175 0.875,-3.575 0.625,-3.575 0.625,-4.175
  region: 1.375,-4.175 1.375,-3.575 1.125,-3.575 1.125,-4.175
  region: 1.875,-4.175 1.875,-3.575 1.625,-3.575 1.625,-4.175
  region: 2.375,-4.175 2.375,-3.575 2.125,-3.575 2.125,-4.175
  region: 2.875,-4.175 2.875,-3.575 2.625,-3.575 2.625,-4.175
  region: 3.375,-4.175 3.375,-3.575 3.125,-3.575 3.125,-4.175
  region: 4.175,-3.125 3.575,-3.125 3.575,-3.375 4.175,-3.375
  region: 4.175,-2.625 3.575,-2.625 3.575,-2.875 4.175,-2.875
  region: 4.175,-2.125 3.575,-2.125 3.575,-2.375 4.175,-2.375
  region: 4.175,-1.625 3.575,-1.625 3.575,-1.875 4.175,-1.875
  region: 4.175,-1.125 3.575,-1.125 3.575,-1.375 4.175,-1.375
  region: 4.175,-0.625 3.575,-0.625 3.575,-0.875 4.175,-0.875
  region: 4.175,-0.125 3.575,-0.125 3.575,-0.375 4.175,-0.375
  region: 4.175,0.375 3.575,0.375 3.575,0.125 4.175,0.125
  region: 4.175,0.875 3.575,0.875 3.575,0.625 4.175,0.625
  region: 4.175,1.375 3.575,1.375 3.575,1.125 4.175,1.125
  region: 4.175,1.875 3.575,1.875 3.575,1.625 4.175,1.625
  region: 4.175,2.375 3.575,2.375 3.575,2.125 4.175,2.125
  region: 4.175,2.875 3.575,2.875 3.575,2.625 4.175,2.625
  region: 4.175,3.375 3.575,3.375 3.575,3.125 4.175,3.125
  region: 3.125,4.175 3.125,3.575 3.375,3.575 3.375,4.175
  region: 2.625,4.175 2.625,3.575 2.875,3.575 2.875,4.175
  region: 2.125,4.175 2.125,3.575 2.375,3.575 2.375,4.175
  region: 1.625,4.175 1.625,3.575 1.875,3.575 1.875,4.175
  region: 1.125,4.175 1.125,3.575 1.375,3.575 1.375,4.175
  region: 0.625,4.175 0.625,3.575 0.875,3.575 0.875,4.175
  region: 0.125,4.175 0.125,3.575 0.375,3.575 0.375,4.175
  region: -0.375,4.175 -0.375,3.575 -0.125,3.575 -0.125,4.175
  region: -0.875,4.175 -0.875,3.575 -0.625,3.575 -0.625,4.175
  region: -1.375,4.175 -1.375,3.575 -1.125,3.575 -1.125,4.175
  region: -1.875,4.175 -1.875,3.575 -1.625,3.575 -1.625,4.175
  region: -2.375,4.175 -2.375,3.575 -2.125,3.575 -2.125,4.175
  region: -2.875,4.175 -2.875,3.575 -2.625,3.575 -2.625,4.175
  region: -3.375,4.175 -3.375,3.575 -3.125,3.575 -3.125,4.175
  rectangle: -2.5,0.5 -0.5,2.5
  rectangle: 0.5,0.5 2.5,2.5
  rectangle: 0.5,-2.5 2.5,-0.5
  rectangle: -2.5,-2.5 -0.5,-0.5
Top Solder:
  rectangle: -4.225,3.075 -3.525,3.425
  rectangle: -3.125,-3.125 3.125,3.125
  rectangle: -4.225,2.575 -3.525,2.925
  rectangle: -4.225,2.075 -3.525,2.425
  rectangle: -4.225,1.575 -3.525,1.925
  rectangle: -4.225,1.075 -3.525,1.425
  rectangle: -4.225,0.575 -3.525,0.925
  rectangle: -4.225,0.075 -3.525,0.425
  rectangle: -4.225,-0.425 -3.525,-0.075
  rectangle: -4.225,-0.925 -3.525,-0.575
  rectangle: -4.225,-1.425 -3.525,-1.075
  rectangle: -4.225,-1.925 -3.525,-1.575
  rectangle: -4.225,-2.425 -3.525,-2.075
  rectangle: -4.225,-2.925 -3.525,-2.575
  rectangle: -4.225,-3.425 -3.525,-3.075
  region: -3.075,-4.225 -3.075,-3.525 -3.425,-3.525 -3.425,-4.225
  region: -2.575,-4.225 -2.575,-3.525 -2.925,-3.525 -2.925,-4.225
  region: -2.075,-4.225 -2.075,-3.525 -2.425,-3.525 -2.425,-4.225
  region: -1.575,-4.225 -1.575,-3.525 -1.925,-3.525 -1.925,-4.225
  region: -1.075,-4.225 -1.075,-3.525 -1.425,-3.525 -1.425,-4.225
  region: -0.575,-4.225 -0.575,-3.525 -0.925,-3.525 -0.925,-4.225
  region: -0.075,-4.225 -0.075,-3.525 -0.425,-3.525 -0.425,-4.225
  region: 0.425,-4.225 0.425,-3.525 0.075,-3.525 0.075,-4.225
  region: 0.925,-4.225 0.925,-3.525 0.575,-3.525 0.575,-4.225
  region: 1.425,-4.225 1.425,-3.525 1.075,-3.525 1.075,-4.225
  region: 1.925,-4.225 1.925,-3.525 1.575,-3.525 1.575,-4.225
  region: 2.425,-4.225 2.425,-3.525 2.075,-3.525 2.075,-4.225
  region: 2.925,-4.225 2.925,-3.525 2.575,-3.525 2.575,-4.225
  region: 3.425,-4.225 3.425,-3.525 3.075,-3.525 3.075,-4.225
  region: 4.225,-3.075 3.525,-3.075 3.525,-3.425 4.225,-3.425
  region: 4.225,-2.575 3.525,-2.575 3.525,-2.925 4.225,-2.925
  region: 4.225,-2.075 3.525,-2.075 3.525,-2.425 4.225,-2.425
  region: 4.225,-1.575 3.525,-1.575 3.525,-1.925 4.225,-1.925
  region: 4.225,-1.075 3.525,-1.075 3.525,-1.425 4.225,-1.425
  region: 4.225,-0.575 3.525,-0.575 3.525,-0.925 4.225,-0.925
  region: 4.225,-0.075 3.525,-0.075 3.525,-0.425 4.225,-0.425
  region: 4.225,0.425 3.525,0.425 3.525,0.075 4.225,0.075
  region: 4.225,0.925 3.525,0.925 3.525,0.575 4.225,0.575
  region: 4.225,1.425 3.525,1.425 3.525,1.075 4.225,1.075
  region: 4.225,1.925 3.525,1.925 3.525,1.575 4.225,1.575
  region: 4.225,2.425 3.525,2.425 3.525,2.075 4.225,2.075
  region: 4.225,2.925 3.525,2.925 3.525,2.575 4.225,2.575
  region: 4.225,3.425 3.525,3.425 3.525,3.075 4.225,3.075
  region: 3.075,4.225 3.075,3.525 3.425,3.525 3.425,4.225
  region: 2.575,4.225 2.575,3.525 2.925,3.525 2.925,4.225
  region: 2.075,4.225 2.075,3.525 2.425,3.525 2.425,4.225
  region: 1.575,4.225 1.575,3.525 1.925,3.525 1.925,4.225
  region: 1.075,4.225 1.075,3.525 1.425,3.525 1.425,4.225
  region: 0.575,4.225 0.575,3.525 0.925,3.525 0.925,4.225
  region: 0.075,4.225 0.075,3.525 0.425,3.525 0.425,4.225
  region: -0.425,4.225 -0.425,3.525 -0.075,3.525 -0.075,4.225
  region: -0.925,4.225 -0.925,3.525 -0.575,3.525 -0.575,4.225
  region: -1.425,4.225 -1.425,3.525 -1.075,3.525 -1.075,4.225
  region: -1.925,4.225 -1.925,3.525 -1.575,3.525 -1.575,4.225
  region: -2.425,4.225 -2.425,3.525 -2.075,3.525 -2.075,4.225
  region: -2.925,4.225 -2.925,3.525 -2.575,3.525 -2.575,4.225
  region: -3.425,4.225 -3.425,3.525 -3.075,3.525 -3.075,4.225
Mechanical 16:
  circle w0: c-3.075,3.05 r0.325
  lines w0.203: -3.898,-3.4 -3.898,3.4 -3.4,3.898 3.4,3.898 3.898,3.4 3.898,-3.4 3.4,-3.898 -3.4,-3.898 -3.898,-3.4

## LFCSP64 [mm]
pads (65):
  rrect20% 0.65x0.3 smd: 1(-4.375,3.75) 2(-4.375,3.25) 3(-4.375,2.75) 4(-4.375,2.25) 5(-4.375,1.75) 6(-4.375,1.25) 7(-4.375,0.75) 8(-4.375,0.25) 9(-4.375,-0.25) 10(-4.375,-0.75) 11(-4.375,-1.25) 12(-4.375,-1.75) 13(-4.375,-2.25) 14(-4.375,-2.75) 15(-4.375,-3.25) 16(-4.375,-3.75) 33(4.375,-3.75) 34(4.375,-3.25) 35(4.375,-2.75) 36(4.375,-2.25) 37(4.375,-1.75) 38(4.375,-1.25) 39(4.375,-0.75) 40(4.375,-0.25) 41(4.375,0.25) 42(4.375,0.75) 43(4.375,1.25) 44(4.375,1.75) 45(4.375,2.25) 46(4.375,2.75) 47(4.375,3.25) 48(4.375,3.75)
  rrect20% 0.3x0.65 smd: 17(-3.75,-4.375) 18(-3.25,-4.375) 19(-2.75,-4.375) 20(-2.25,-4.375) 21(-1.75,-4.375) 22(-1.25,-4.375) 23(-0.75,-4.375) 24(-0.25,-4.375) 25(0.25,-4.375) 26(0.75,-4.375) 27(1.25,-4.375) 28(1.75,-4.375) 29(2.25,-4.375) 30(2.75,-4.375) 31(3.25,-4.375) 32(3.75,-4.375) 49(3.75,4.375) 50(3.25,4.375) 51(2.75,4.375) 52(2.25,4.375) 53(1.75,4.375) 54(1.25,4.375) 55(0.75,4.375) 56(0.25,4.375) 57(-0.25,4.375) 58(-0.75,4.375) 59(-1.25,4.375) 60(-1.75,4.375) 61(-2.25,4.375) 62(-2.75,4.375) 63(-3.25,4.375) 64(-3.75,4.375)
  rrect5% 4.85x4.85 smd: EXP(0,0)
Top Overlay:
  circle w0.203: c-3.175,3.175 r0.359
Top Solder:
  rectangle: -4.71,3.59 -4.04,3.91
  rectangle: -4.71,3.09 -4.04,3.41
  rectangle: -4.71,2.59 -4.04,2.91
  rectangle: -4.71,2.09 -4.04,2.41
  rectangle: -4.71,1.59 -4.04,1.91
  rectangle: -4.71,1.09 -4.04,1.41
  rectangle: -4.71,0.59 -4.04,0.91
  rectangle: -4.71,0.09 -4.04,0.41
  rectangle: -4.71,-0.41 -4.04,-0.09
  rectangle: -4.71,-0.91 -4.04,-0.59
  rectangle: -4.71,-1.41 -4.04,-1.09
  rectangle: -4.71,-1.91 -4.04,-1.59
  rectangle: -4.71,-2.41 -4.04,-2.09
  rectangle: -4.71,-2.91 -4.04,-2.59
  rectangle: -4.71,-3.41 -4.04,-3.09
  rectangle: -4.71,-3.91 -4.04,-3.59
  region: -3.59,-4.71 -3.59,-4.04 -3.91,-4.04 -3.91,-4.71
  region: -3.09,-4.71 -3.09,-4.04 -3.41,-4.04 -3.41,-4.71
  region: -2.59,-4.71 -2.59,-4.04 -2.91,-4.04 -2.91,-4.71
  region: -2.09,-4.71 -2.09,-4.04 -2.41,-4.04 -2.41,-4.71
  region: -1.59,-4.71 -1.59,-4.04 -1.91,-4.04 -1.91,-4.71
  region: -1.09,-4.71 -1.09,-4.04 -1.41,-4.04 -1.41,-4.71
  region: -0.59,-4.71 -0.59,-4.04 -0.91,-4.04 -0.91,-4.71
  region: -0.09,-4.71 -0.09,-4.04 -0.41,-4.04 -0.41,-4.71
  region: 0.41,-4.71 0.41,-4.04 0.09,-4.04 0.09,-4.71
  region: 0.91,-4.71 0.91,-4.04 0.59,-4.04 0.59,-4.71
  region: 1.41,-4.71 1.41,-4.04 1.09,-4.04 1.09,-4.71
  region: 1.91,-4.71 1.91,-4.04 1.59,-4.04 1.59,-4.71
  region: 2.41,-4.71 2.41,-4.04 2.09,-4.04 2.09,-4.71
  region: 2.91,-4.71 2.91,-4.04 2.59,-4.04 2.59,-4.71
  region: 3.41,-4.71 3.41,-4.04 3.09,-4.04 3.09,-4.71
  region: 3.91,-4.71 3.91,-4.04 3.59,-4.04 3.59,-4.71
  region: 4.71,-3.59 4.04,-3.59 4.04,-3.91 4.71,-3.91
  region: 4.71,-3.09 4.04,-3.09 4.04,-3.41 4.71,-3.41
  region: 4.71,-2.59 4.04,-2.59 4.04,-2.91 4.71,-2.91
  region: 4.71,-2.09 4.04,-2.09 4.04,-2.41 4.71,-2.41
  region: 4.71,-1.59 4.04,-1.59 4.04,-1.91 4.71,-1.91
  region: 4.71,-1.09 4.04,-1.09 4.04,-1.41 4.71,-1.41
  region: 4.71,-0.59 4.04,-0.59 4.04,-0.91 4.71,-0.91
  region: 4.71,-0.09 4.04,-0.09 4.04,-0.41 4.71,-0.41
  region: 4.71,0.41 4.04,0.41 4.04,0.09 4.71,0.09
  region: 4.71,0.91 4.04,0.91 4.04,0.59 4.71,0.59
  region: 4.71,1.41 4.04,1.41 4.04,1.09 4.71,1.09
  region: 4.71,1.91 4.04,1.91 4.04,1.59 4.71,1.59
  region: 4.71,2.41 4.04,2.41 4.04,2.09 4.71,2.09
  region: 4.71,2.91 4.04,2.91 4.04,2.59 4.71,2.59
  region: 4.71,3.41 4.04,3.41 4.04,3.09 4.71,3.09
  region: 4.71,3.91 4.04,3.91 4.04,3.59 4.71,3.59
  region: 3.59,4.71 3.59,4.04 3.91,4.04 3.91,4.71
  region: 3.09,4.71 3.09,4.04 3.41,4.04 3.41,4.71
  region: 2.59,4.71 2.59,4.04 2.91,4.04 2.91,4.71
  region: 2.09,4.71 2.09,4.04 2.41,4.04 2.41,4.71
  region: 1.59,4.71 1.59,4.04 1.91,4.04 1.91,4.71
  region: 1.09,4.71 1.09,4.04 1.41,4.04 1.41,4.71
  region: 0.59,4.71 0.59,4.04 0.91,4.04 0.91,4.71
  region: 0.09,4.71 0.09,4.04 0.41,4.04 0.41,4.71
  region: -0.41,4.71 -0.41,4.04 -0.09,4.04 -0.09,4.71
  region: -0.91,4.71 -0.91,4.04 -0.59,4.04 -0.59,4.71
  region: -1.41,4.71 -1.41,4.04 -1.09,4.04 -1.09,4.71
  region: -1.91,4.71 -1.91,4.04 -1.59,4.04 -1.59,4.71
  region: -2.41,4.71 -2.41,4.04 -2.09,4.04 -2.09,4.71
  region: -2.91,4.71 -2.91,4.04 -2.59,4.04 -2.59,4.71
  region: -3.41,4.71 -3.41,4.04 -3.09,4.04 -3.09,4.71
  region: -3.91,4.71 -3.91,4.04 -3.59,4.04 -3.59,4.71
  rectangle: -2.45,-2.46 2.46,2.45
Mechanical 16:
  lines w0.203: -4.399,-3.9 -4.399,3.9 -3.9,4.399 3.9,4.399 4.399,3.9 4.399,-3.9 3.9,-4.399 -3.9,-4.399 -4.399,-3.9

## LFCSP_VD08 [mm]
pads (10):
  rrect50% 0.3x0.65 smd: 1(-0.75,-0.9) 2(-0.25,-0.9) 3(0.25,-0.9) 4(0.75,-0.9) 5(0.75,0.9) 6(0.25,0.9) 7(-0.25,0.9) 8(-0.75,0.9)
  rect 0.4x0.15 smd: EXP@1(-1,-0.375)
  rect 1.89x0.6 smd: EXP@2(0,0)
Top Overlay:
  circle w0: c-1.2,-0.7 r0.15
  lines w0.203: -1.525,-1.025 -1.525,1.025 ; 1.525,-1.025 1.525,1.025
Top Paste:
  rectangle: -0.875,-1.175 -0.625,-0.625
  rectangle: -1.175,-0.425 -0.825,-0.325
  rectangle: -0.9,-0.25 0.9,0.25
  rectangle: -0.9,-0.35 -0.825,-0.225
  rectangle: -0.375,-1.175 -0.125,-0.625
  rectangle: 0.125,-1.175 0.375,-0.625
  rectangle: 0.625,-1.175 0.875,-0.625
  region: 0.875,1.175 0.625,1.175 0.625,0.625 0.875,0.625
  region: 0.375,1.175 0.125,1.175 0.125,0.625 0.375,0.625
  region: -0.125,1.175 -0.375,1.175 -0.375,0.625 -0.125,0.625
  region: -0.625,1.175 -0.875,1.175 -0.875,0.625 -0.625,0.625
Top Solder:
  rectangle: -0.9,-1.225 -0.6,-0.575
  rectangle: -0.975,-0.325 0.975,0.325
  rectangle: -1.225,-0.475 -0.775,-0.275
  rectangle: -0.4,-1.225 -0.1,-0.575
  rectangle: 0.1,-1.225 0.4,-0.575
  rectangle: 0.6,-1.225 0.9,-0.575
  region: 0.9,1.225 0.6,1.225 0.6,0.575 0.9,0.575
  region: 0.4,1.225 0.1,1.225 0.1,0.575 0.4,0.575
  region: -0.1,1.225 -0.4,1.225 -0.4,0.575 -0.1,0.575
  region: -0.6,1.225 -0.9,1.225 -0.9,0.575 -0.6,0.575
Mechanical 16:
  lines w0.203: -1.525,-1.025 1.525,-1.025 ; -1.525,1.025 1.525,1.025

## LGA16 [mm]
pads (16):
  rect 0.5x1.127 smd: 1(-4.186,2.695) 2(-4.187,0.898) 3(-4.187,-0.898) 4(-4.187,-2.695) 9(4.186,-2.695) 10(4.187,-0.898) 11(4.187,0.898) 12(4.187,2.695)
  rect 1.127x0.5 smd: 5(-2.695,-4.186) 6(-0.898,-4.187) 7(0.898,-4.187) 8(2.695,-4.187) 13(2.695,4.186) 14(0.898,4.187) 15(-0.898,4.187) 16(-2.695,4.187)
Top Overlay:
  circle w0: c-1.905,1.905 r0.282
  lines w0.203: -4.575,-3.68 -4.575,-4.575 -3.68,-4.575 ; -4.575,3.68 -4.575,4.575 -3.68,4.575 ; -4.445,-4.445 -2.54,-2.54 ; -4.445,4.445 -2.54,2.54 ; 2.54,-2.54 4.445,-4.445 ; 2.54,2.54 4.445,4.445 ; 3.68,-4.575 4.575,-4.575 4.575,-3.68 ; 3.68,4.575 4.575,4.575 4.575,3.68 ; -2.5,-2.5 2.5,-2.5 2.5,2.5 -2.5,2.5 -2.5,-2.5
Mechanical 16:
  lines w0.203: -4.575,-4.575 4.575,-4.575 4.575,4.575 -4.575,4.575 -4.575,-4.575

## LQFP80 [mm]
pads (80):
  rect 0.4x1.2 smd: 1(-6.175,-7.7) 2(-5.525,-7.7) 3(-4.875,-7.7) 4(-4.225,-7.7) 5(-3.575,-7.7) 6(-2.925,-7.7) 7(-2.275,-7.7) 8(-1.625,-7.7) 9(-0.975,-7.7) 10(-0.325,-7.7) 11(0.325,-7.7) 12(0.975,-7.7) 13(1.625,-7.7) 14(2.275,-7.7) 15(2.925,-7.7) 16(3.575,-7.7) 17(4.225,-7.7) 18(4.875,-7.7) 19(5.525,-7.7) 20(6.175,-7.7) 41(6.175,7.7) 42(5.525,7.7) 43(4.875,7.7) 44(4.225,7.7) 45(3.575,7.7) 46(2.925,7.7) 47(2.275,7.7) 48(1.625,7.7) 49(0.975,7.7) 50(0.325,7.7) 51(-0.325,7.7) 52(-0.975,7.7) 53(-1.625,7.7) 54(-2.275,7.7) 55(-2.925,7.7) 56(-3.575,7.7) 57(-4.225,7.7) 58(-4.875,7.7) 59(-5.525,7.7) 60(-6.175,7.7)
  rect 1.2x0.4 smd: 21(7.7,-6.175) 22(7.7,-5.525) 23(7.7,-4.875) 24(7.7,-4.225) 25(7.7,-3.575) 26(7.7,-2.925) 27(7.7,-2.275) 28(7.7,-1.625) 29(7.7,-0.975) 30(7.7,-0.325) 31(7.7,0.325) 32(7.7,0.975) 33(7.7,1.625) 34(7.7,2.275) 35(7.7,2.925) 36(7.7,3.575) 37(7.7,4.225) 38(7.7,4.875) 39(7.7,5.525) 40(7.7,6.175) 61(-7.7,6.175) 62(-7.7,5.525) 63(-7.7,4.875) 64(-7.7,4.225) 65(-7.7,3.575) 66(-7.7,2.925) 67(-7.7,2.275) 68(-7.7,1.625) 69(-7.7,0.975) 70(-7.7,0.325) 71(-7.7,-0.325) 72(-7.7,-0.975) 73(-7.7,-1.625) 74(-7.7,-2.275) 75(-7.7,-2.925) 76(-7.7,-3.575) 77(-7.7,-4.225) 78(-7.7,-4.875) 79(-7.7,-5.525) 80(-7.7,-6.175)
Top Overlay:
  circle w0.254: c-5.5,-5.5 r0.75
  lines w0.203: -6.72,-6.71 6.71,-6.71 6.71,6.71 -6.72,6.71 -6.72,-6.71
Mechanical 14:
  lines w0.254: -5,-2.5 -5,2.5 -2.5,5 2.5,5 5,2.5 5,-2.5 2.5,-5 -2.5,-5 -5,-2.5
  text "THERMAL" at -2.5,3.675 h1.26
  text "SLUG" at -2.5,2.175 h1.26
  text "LQFP_ED" at -2.5,0.675 h1.26
Mechanical 16:
  rectangle: -6.375,-8 -5.975,-6.95
  rectangle: -5.725,-8 -5.325,-6.95
  rectangle: -5.075,-8 -4.675,-6.95
  rectangle: -4.425,-8 -4.025,-6.95
  rectangle: -3.775,-8 -3.375,-6.95
  rectangle: -3.125,-8 -2.725,-6.95
  rectangle: -2.475,-8 -2.075,-6.95
  rectangle: -1.825,-8 -1.425,-6.95
  rectangle: -1.175,-8 -0.775,-6.95
  rectangle: -0.525,-8 -0.125,-6.95
  rectangle: 0.125,-8 0.525,-6.95
  rectangle: 0.775,-8 1.175,-6.95
  rectangle: 1.425,-8 1.825,-6.95
  rectangle: 2.075,-8 2.475,-6.95
  rectangle: 2.725,-8 3.125,-6.95
  rectangle: 3.375,-8 3.775,-6.95
  rectangle: 4.025,-8 4.425,-6.95
  rectangle: 4.675,-8 5.075,-6.95
  rectangle: 5.325,-8 5.725,-6.95
  rectangle: 5.975,-8 6.375,-6.95
  rectangle: 6.95,-6.375 8,-5.975
  rectangle: 6.95,-5.725 8,-5.325
  rectangle: 6.95,-5.075 8,-4.675
  rectangle: 6.95,-4.425 8,-4.025
  rectangle: 6.95,-3.775 8,-3.375
  rectangle: 6.95,-3.125 8,-2.725
  rectangle: 6.95,-2.475 8,-2.075
  rectangle: 6.95,-1.825 8,-1.425
  rectangle: 6.95,-1.175 8,-0.775
  rectangle: 6.95,-0.525 8,-0.125
  rectangle: 6.95,0.125 8,0.525
  rectangle: 6.95,0.775 8,1.175
  rectangle: 6.95,1.425 8,1.825
  rectangle: 6.95,2.075 8,2.475
  rectangle: 6.95,2.725 8,3.125
  rectangle: 6.95,3.375 8,3.775
  rectangle: 6.95,4.025 8,4.425
  rectangle: 6.95,4.675 8,5.075
  rectangle: 6.95,5.325 8,5.725
  rectangle: 6.95,5.975 8,6.375
  rectangle: 5.975,6.95 6.375,8
  rectangle: 5.325,6.95 5.725,8
  rectangle: 4.675,6.95 5.075,8
  rectangle: 4.025,6.95 4.425,8
  rectangle: 3.375,6.95 3.775,8
  rectangle: 2.725,6.95 3.125,8
  rectangle: 2.075,6.95 2.475,8
  rectangle: 1.425,6.95 1.825,8
  rectangle: 0.775,6.95 1.175,8
  rectangle: 0.125,6.95 0.525,8
  rectangle: -0.525,6.95 -0.125,8
  rectangle: -1.175,6.95 -0.775,8
  rectangle: -1.825,6.95 -1.425,8
  rectangle: -2.475,6.95 -2.075,8
  rectangle: -3.125,6.95 -2.725,8
  rectangle: -3.775,6.95 -3.375,8
  rectangle: -4.425,6.95 -4.025,8
  rectangle: -5.075,6.95 -4.675,8
  rectangle: -5.725,6.95 -5.325,8
  rectangle: -6.375,6.95 -5.975,8
  rectangle: -8,5.975 -6.95,6.375
  rectangle: -8,5.325 -6.95,5.725
  rectangle: -8,4.675 -6.95,5.075
  rectangle: -8,4.025 -6.95,4.425
  rectangle: -8,3.375 -6.95,3.775
  rectangle: -8,2.725 -6.95,3.125
  rectangle: -8,2.075 -6.95,2.475
  rectangle: -8,1.425 -6.95,1.825
  rectangle: -8,0.775 -6.95,1.175
  rectangle: -8,0.125 -6.95,0.525
  rectangle: -8,-0.525 -6.95,-0.125
  rectangle: -8,-1.175 -6.95,-0.775
  rectangle: -8,-1.825 -6.95,-1.425
  rectangle: -8,-2.475 -6.95,-2.075
  rectangle: -8,-3.125 -6.95,-2.725
  rectangle: -8,-3.775 -6.95,-3.375
  rectangle: -8,-4.425 -6.95,-4.025
  rectangle: -8,-5.075 -6.95,-4.675
  rectangle: -8,-5.725 -6.95,-5.325
  rectangle: -8,-6.375 -6.95,-5.975
  lines w0.203: -6.91,-6.91 6.91,-6.91 6.91,6.91 -6.91,6.91 -6.91,-6.91